# EAGLE library part BCM2835 (library bcm2835)
BCM2835 is an application processor from Broadcom. CPU(s) 1 1x ARM1176JZF-S @ 700 MHz GPU VideoCore IV Architecture ARM Instruction set ARMv6 (32-bit)
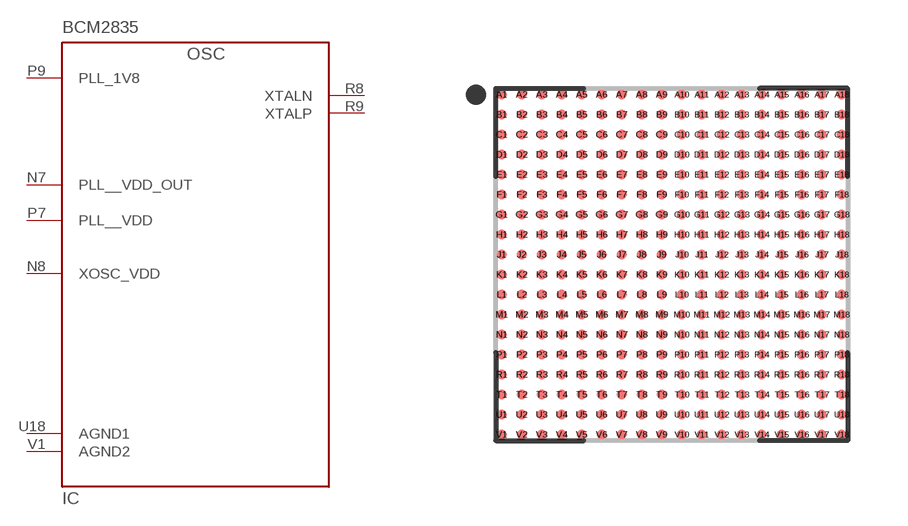
[diagram p0: symbol with the pads of BGA324C50P18X18_880X880X100N; footprint BGA324C50P18X18_880X880X100N]

Designator prefix IC

## BCM2835BCM2835  [BGA324C50P18X18_880X880X100N]
N7  PLL__VDD_OUT
N8  XOSC_VDD  pwr
P7  PLL__VDD
P9  PLL_1V8
R8  XTALN
R9  XTALP
U18  AGND1
V1  AGND2

## Footprint BGA324C50P18X18_880X880X100N (pad centres in mm)
324-BGA, collapsing, 0.50 mm pitch, 8.80 X 8.80 X 1.00 mm body 324-pin collapsing BGA package with 0.50 mm col pitch and 0.50 mm row pitch with body size 8.80 X 8.80 X 1.00 mm
smd 0.25 x 0.25: A1 -4.25,4.25; A2 -3.75,4.25; A3 -3.25,4.25; A4 -2.75,4.25; A5 -2.25,4.25; A6 -1.75,4.25; A7 -1.25,4.25; A8 -0.75,4.25; A9 -0.25,4.25; A10 0.25,4.25; A11 0.75,4.25; A12 1.25,4.25; A13 1.75,4.25; A14 2.25,4.25; A15 2.75,4.25; A16 3.25,4.25; A17 3.75,4.25; A18 4.25,4.25; B1 -4.25,3.75; B2 -3.75,3.75; B3 -3.25,3.75; B4 -2.75,3.75; B5 -2.25,3.75; B6 -1.75,3.75; B7 -1.25,3.75; B8 -0.75,3.75; B9 -0.25,3.75; B10 0.25,3.75; B11 0.75,3.75; B12 1.25,3.75; B13 1.75,3.75; B14 2.25,3.75; B15 2.75,3.75; B16 3.25,3.75; B17 3.75,3.75; B18 4.25,3.75; C1 -4.25,3.25; C2 -3.75,3.25; C3 -3.25,3.25; C4 -2.75,3.25; C5 -2.25,3.25; C6 -1.75,3.25; C7 -1.25,3.25; C8 -0.75,3.25; C9 -0.25,3.25; C10 0.25,3.25; C11 0.75,3.25; C12 1.25,3.25; C13 1.75,3.25; C14 2.25,3.25; C15 2.75,3.25; C16 3.25,3.25; C17 3.75,3.25; C18 4.25,3.25; D1 -4.25,2.75; D2 -3.75,2.75; D3 -3.25,2.75; D4 -2.75,2.75; D5 -2.25,2.75; D6 -1.75,2.75; D7 -1.25,2.75; D8 -0.75,2.75; D9 -0.25,2.75; D10 0.25,2.75; D11 0.75,2.75; D12 1.25,2.75; D13 1.75,2.75; D14 2.25,2.75; D15 2.75,2.75; D16 3.25,2.75; D17 3.75,2.75; D18 4.25,2.75; E1 -4.25,2.25; E2 -3.75,2.25; E3 -3.25,2.25; E4 -2.75,2.25; E5 -2.25,2.25; E6 -1.75,2.25; E7 -1.25,2.25; E8 -0.75,2.25; E9 -0.25,2.25; E10 0.25,2.25; E11 0.75,2.25; E12 1.25,2.25; E13 1.75,2.25; E14 2.25,2.25; E15 2.75,2.25; E16 3.25,2.25; E17 3.75,2.25; E18 4.25,2.25; F1 -4.25,1.75; F2 -3.75,1.75; F3 -3.25,1.75; F4 -2.75,1.75; F5 -2.25,1.75; F6 -1.75,1.75; F7 -1.25,1.75; F8 -0.75,1.75; F9 -0.25,1.75; F10 0.25,1.75; F11 0.75,1.75; F12 1.25,1.75; F13 1.75,1.75; F14 2.25,1.75; F15 2.75,1.75; F16 3.25,1.75; F17 3.75,1.75; F18 4.25,1.75; G1 -4.25,1.25; G2 -3.75,1.25; G3 -3.25,1.25; G4 -2.75,1.25; G5 -2.25,1.25; G6 -1.75,1.25; G7 -1.25,1.25; G8 -0.75,1.25; G9 -0.25,1.25; G10 0.25,1.25; G11 0.75,1.25; G12 1.25,1.25; G13 1.75,1.25; G14 2.25,1.25; G15 2.75,1.25; G16 3.25,1.25; G17 3.75,1.25; G18 4.25,1.25; H1 -4.25,0.75; H2 -3.75,0.75; H3 -3.25,0.75; H4 -2.75,0.75; H5 -2.25,0.75; H6 -1.75,0.75; H7 -1.25,0.75; H8 -0.75,0.75; H9 -0.25,0.75; H10 0.25,0.75; H11 0.75,0.75; H12 1.25,0.75; H13 1.75,0.75; H14 2.25,0.75; H15 2.75,0.75; H16 3.25,0.75; H17 3.75,0.75; H18 4.25,0.75; J1 -4.25,0.25; J2 -3.75,0.25; J3 -3.25,0.25; J4 -2.75,0.25; J5 -2.25,0.25; J6 -1.75,0.25; J7 -1.25,0.25; J8 -0.75,0.25; J9 -0.25,0.25; J10 0.25,0.25; J11 0.75,0.25; J12 1.25,0.25; J13 1.75,0.25; J14 2.25,0.25; J15 2.75,0.25; J16 3.25,0.25; J17 3.75,0.25; J18 4.25,0.25; K1 -4.25,-0.25; K2 -3.75,-0.25; K3 -3.25,-0.25; K4 -2.75,-0.25; K5 -2.25,-0.25; K6 -1.75,-0.25; K7 -1.25,-0.25; K8 -0.75,-0.25; K9 -0.25,-0.25; K10 0.25,-0.25; K11 0.75,-0.25; K12 1.25,-0.25; K13 1.75,-0.25; K14 2.25,-0.25; K15 2.75,-0.25; K16 3.25,-0.25; K17 3.75,-0.25; K18 4.25,-0.25; L1 -4.25,-0.75; L2 -3.75,-0.75; L3 -3.25,-0.75; L4 -2.75,-0.75; L5 -2.25,-0.75; L6 -1.75,-0.75; L7 -1.25,-0.75; L8 -0.75,-0.75; L9 -0.25,-0.75; L10 0.25,-0.75; L11 0.75,-0.75; L12 1.25,-0.75; L13 1.75,-0.75; L14 2.25,-0.75; L15 2.75,-0.75; L16 3.25,-0.75; L17 3.75,-0.75; L18 4.25,-0.75; M1 -4.25,-1.25; M2 -3.75,-1.25; M3 -3.25,-1.25; M4 -2.75,-1.25; M5 -2.25,-1.25; M6 -1.75,-1.25; M7 -1.25,-1.25; M8 -0.75,-1.25; M9 -0.25,-1.25; M10 0.25,-1.25; M11 0.75,-1.25; M12 1.25,-1.25; M13 1.75,-1.25; M14 2.25,-1.25; M15 2.75,-1.25; M16 3.25,-1.25; M17 3.75,-1.25; M18 4.25,-1.25; N1 -4.25,-1.75; N2 -3.75,-1.75; N3 -3.25,-1.75; N4 -2.75,-1.75; N5 -2.25,-1.75; N6 -1.75,-1.75; N7 -1.25,-1.75; N8 -0.75,-1.75; N9 -0.25,-1.75; N10 0.25,-1.75; N11 0.75,-1.75; N12 1.25,-1.75; N13 1.75,-1.75; N14 2.25,-1.75; N15 2.75,-1.75; N16 3.25,-1.75; N17 3.75,-1.75; N18 4.25,-1.75; P1 -4.25,-2.25; P2 -3.75,-2.25; P3 -3.25,-2.25; P4 -2.75,-2.25; P5 -2.25,-2.25; P6 -1.75,-2.25; P7 -1.25,-2.25; P8 -0.75,-2.25; P9 -0.25,-2.25; P10 0.25,-2.25; P11 0.75,-2.25; P12 1.25,-2.25; P13 1.75,-2.25; P14 2.25,-2.25; P15 2.75,-2.25; P16 3.25,-2.25; P17 3.75,-2.25; P18 4.25,-2.25; R1 -4.25,-2.75; R2 -3.75,-2.75; R3 -3.25,-2.75; R4 -2.75,-2.75; R5 -2.25,-2.75; R6 -1.75,-2.75; R7 -1.25,-2.75; R8 -0.75,-2.75; R9 -0.25,-2.75; R10 0.25,-2.75; R11 0.75,-2.75; R12 1.25,-2.75; R13 1.75,-2.75; R14 2.25,-2.75; R15 2.75,-2.75; R16 3.25,-2.75; R17 3.75,-2.75; R18 4.25,-2.75; T1 -4.25,-3.25; T2 -3.75,-3.25; T3 -3.25,-3.25; T4 -2.75,-3.25; T5 -2.25,-3.25; T6 -1.75,-3.25; T7 -1.25,-3.25; T8 -0.75,-3.25; T9 -0.25,-3.25; T10 0.25,-3.25; T11 0.75,-3.25; T12 1.25,-3.25; T13 1.75,-3.25; T14 2.25,-3.25; T15 2.75,-3.25; T16 3.25,-3.25; T17 3.75,-3.25; T18 4.25,-3.25; U1 -4.25,-3.75; U2 -3.75,-3.75; U3 -3.25,-3.75; U4 -2.75,-3.75; U5 -2.25,-3.75; U6 -1.75,-3.75; U7 -1.25,-3.75; U8 -0.75,-3.75; U9 -0.25,-3.75; U10 0.25,-3.75; U11 0.75,-3.75; U12 1.25,-3.75; U13 1.75,-3.75; U14 2.25,-3.75; U15 2.75,-3.75; U16 3.25,-3.75; U17 3.75,-3.75; U18 4.25,-3.75; V1 -4.25,-4.25; V2 -3.75,-4.25; V3 -3.25,-4.25; V4 -2.75,-4.25; V5 -2.25,-4.25; V6 -1.75,-4.25; V7 -1.25,-4.25; V8 -0.75,-4.25; V9 -0.25,-4.25; V10 0.25,-4.25; V11 0.75,-4.25; V12 1.25,-4.25; V13 1.75,-4.25; V14 2.25,-4.25; V15 2.75,-4.25; V16 3.25,-4.25; V17 3.75,-4.25; V18 4.25,-4.25